# Altium footprint library SG__PCB_Chip.PcbLib: 121 footprints (part 4 of 8)
Each footprint in its own frame and in the unit in brackets; x right, y up, seen from the top. Pads: shape width x height; smd on the part's side, far side on the other; paste and mask are expansions set on the pad; w line width, h text height; cw(c..) or ccw(c..) is an arc to the next point about the centre after c.
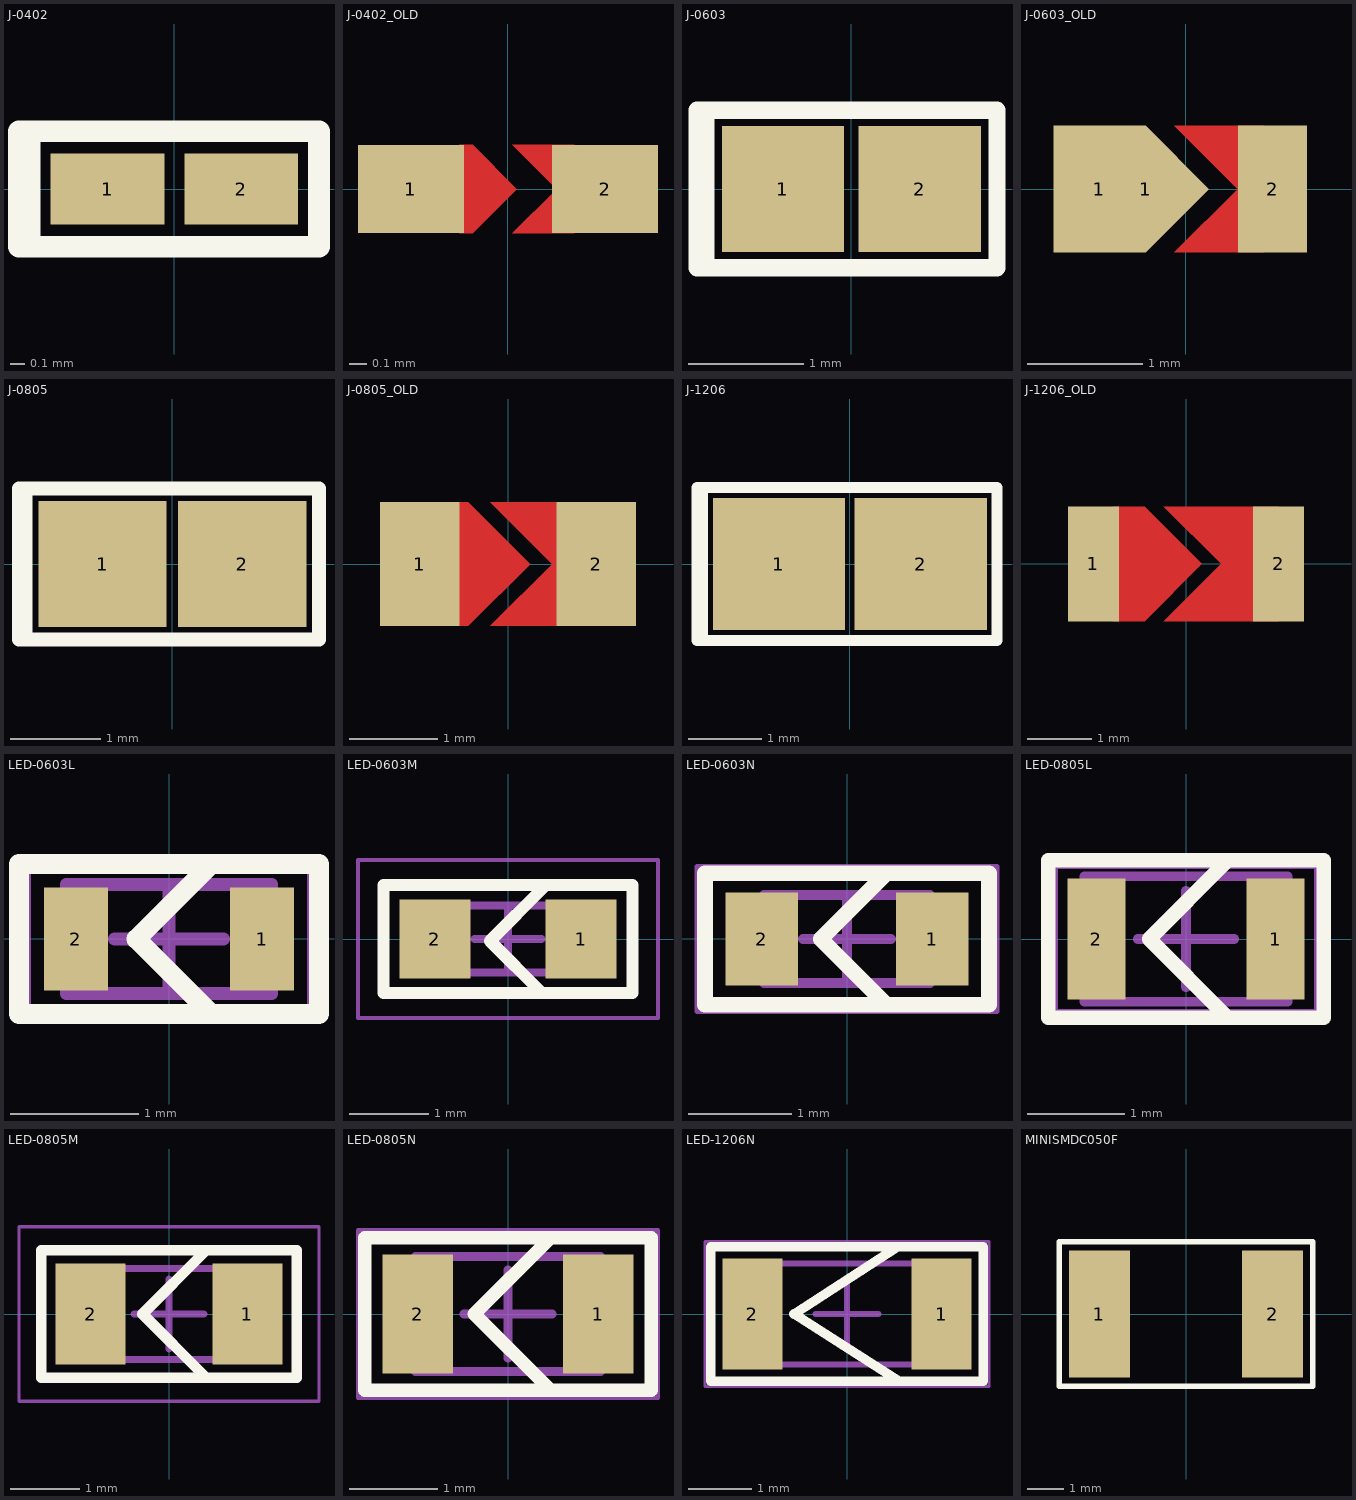
[diagram p3: the footprints below, top view; thin cyan lines are the x and y axes]

## J-0402 [mil]
pads (2):
  rect 31.5x19.68 smd mask+1.97: 1(-18.5,0) 2(18.5,0)
Top Overlay:
  lines w6: -36,-16 -43,-16 -43,13 -43,16 -30,16 ; -8,-16 40,-16 40,-2 40,16 13,16 -40,16 -40,-6 -40,-16 -7,-16
3D body: height 13.78, standoff 0, extent -11.81,-9.84 11.81,9.84
3D body: height 13.78, standoff 0, extent -19.68,-9.84 -11.81,9.84
3D body: height 13.78, standoff 0, extent 11.81,-9.84 19.69,9.84

## J-0402_OLD [mm]
pads (2):
  rect 0.6x0.5 smd mask+0.05: 1(-0.55,0) 2(0.55,0)
Top Layer:
  region: -0.2,-0.25 0.05,0 -0.2,0.25 -0.275,0.25 -0.275,-0.25
  region: 0.375,-0.25 0.025,-0.25 0.275,0 0.025,0.25 0.375,0.25 0.45,0.175 0.45,-0.175

## J-0603 [mil]
pads (2):
  rect 42x43.31 smd mask+1.97: 1(-23.5,0) 2(23.5,0)
Top Overlay:
  lines w6: -47.5,-27 50,-27 50,27 27.5,27 -50,27 -50,-27 -43.5,-27 ; -46,-27 -53,-27 -53,4 -53,27 -44,27
3D body: height 17.72, standoff 0, extent 21.65,-15.75 31.5,15.75
3D body: height 17.72, standoff 0, extent -31.5,-15.75 -21.65,15.75
3D body: height 17.72, standoff 0, extent -21.65,-15.75 21.65,15.75

## J-0603_OLD [mm]
pads (3):
  rect 0.8x1.1 smd mask+0.05: 1(-0.75,0)
  rect 0.778x0.778 smd rot 45 mask+0.05: 1(-0.35,0)
  rect 0.6x1.1 smd mask+0.05: 2(0.75,0)
Top Layer:
  region: -0.1,-0.55 0.45,0 -0.1,0.55 0.675,0.55 0.675,-0.55

## J-0805 [mil]
pads (2):
  rect 56x55.12 smd mask+1.97: 1(-30.5,0) 2(30.5,0)
Top Overlay:
  lines w6: -61,-33 -67,-33 -67,-11 -67,33 -58,33 ; -10.5,-33 64,-33 64,-19.5 64,33 52.5,33 -64,33 -64,-6.5 -64,-33 -8.5,-33
3D body: height 19.68, standoff 0, extent 25.59,-24.61 39.37,24.61
3D body: height 19.68, standoff 0, extent -39.37,-24.61 -25.59,24.61
3D body: height 19.68, standoff 0, extent -25.59,-24.61 25.59,24.61

## J-0805_OLD [mm]
pads (2):
  rect 0.9x1.4 smd mask+0.05: 1(-1,0) 2(1,0)
Top Layer:
  region: -0.2,-0.7 0.5,0 -0.2,0.7 0.65,0.7 0.65,-0.7
  region: -0.625,-0.7 -0.45,-0.7 0.25,0 -0.45,0.7 -0.625,0.7

## J-1206 [mil]
pads (2):
  rect 71x70.87 smd mask+1.97: 1(-38,0) 2(38,0)
Top Overlay:
  lines w6: -76,-41 -82,-41 -82,-10 -82,41 -75,41 ; -20,-41 79,-41 79,-17 79,41 36,41 -79,41 -79,-11 -79,-41 -17,-41
3D body: height 21.65, standoff 0, extent 43.31,-31.5 61.02,31.5
3D body: height 21.65, standoff 0, extent -61.02,-31.5 -43.31,31.5
3D body: height 21.65, standoff 0, extent -43.31,-31.5 43.31,31.5

## J-1206_OLD [mm]
pads (2):
  rect 0.8x1.8 smd mask+0.05: 1(-1.45,0) 2(1.45,0)
Top Layer:
  region: -1.15,-0.9 -0.65,-0.9 0.25,0 -0.65,0.9 -1.15,0.9
  region: -0.35,-0.9 0.55,0 -0.35,0.9 1.45,0.9 1.45,-0.9

## LED-0603L [mm] "Chip Resistor, 2-Leads, Body 1,60x0,85mm, IPC High Density"
height 0.45
pads (2):
  rect 0.5x0.8 smd: 1(0.725,0) 2(-0.725,0)
Top Overlay:
  lines w0.152: 0.33,-0.584 -0.254,0 0.33,0.584 ; 1.143,0.584 -1.169,0.584 -1.169,-0.584 1.168,-0.584 1.168,0.559 1.168,0.584
Assembly Top:
  lines w0.1: -0.8,-0.425 -0.8,0.425 0.8,0.425 0.8,-0.425 -0.8,-0.425
Courtyard Top:
  lines w0.05: -1.1,-0.55 -1.1,0.55 1.1,0.55 1.1,-0.55 -1.1,-0.55
  lines w0.1: -0.425,0 0.425,0 ; 0,-0.425 0,0.425
3D body "LED0603.step": height 0.6, standoff 0, extent -0.81,-0.4 0.81,0.4

## LED-0603M [mm] "Chip Resistor, 2-Leads, Body 1,60x0,85mm, IPC Low Density"
height 0.45
pads (2):
  rect 0.9x1 smd: 1(0.925,0) 2(-0.925,0)
Top Overlay:
  lines w0.152: 0.432,-0.686 -0.229,-0.025 0.457,0.66 ; 1.245,0.686 1.575,0.686 1.575,0.381 ; -1.575,-0.686 -1.575,0.686 1.549,0.686 1.575,0.66 1.575,-0.686 -1.575,-0.686
Assembly Top:
  lines w0.1: -0.8,-0.425 0.8,-0.425 0.8,0.425 -0.8,0.425 -0.8,-0.425
Courtyard Top:
  lines w0.05: -1.9,-1 1.9,-1 1.9,1 -1.9,1 -1.9,-1
  lines w0.1: -0.425,0 0.425,0 ; 0,-0.425 0,0.425
3D body "LED0603.step": height 0.6, standoff 0, extent -0.81,-0.4 0.81,0.4

## LED-0603N [mm] "Chip Resistor, 2-Leads, Body 1,60x0,85mm, IPC Medium Density"
height 0.45
pads (2):
  rect 0.7x0.9 smd: 1(0.825,0) 2(-0.825,0)
Top Overlay:
  lines w0.152: 0.381,-0.635 -0.254,0 0.381,0.635 ; 1.346,0.635 -1.372,0.635 -1.372,-0.635 1.372,-0.635 1.372,0.635
Assembly Top:
  lines w0.1: -0.8,-0.425 0.8,-0.425 0.8,0.425 -0.8,0.425 -0.8,-0.425
Courtyard Top:
  lines w0.05: -1.45,-0.7 1.45,-0.7 1.45,0.7 -1.45,0.7 -1.45,-0.7
  lines w0.1: -0.425,0 0.425,0 ; 0,-0.425 0,0.425
3D body "LED0603.step": height 0.6, standoff 0, extent -0.81,-0.4 0.81,0.4

## LED-0805L [mm] "Chip Resistor, 2-Leads, Body 2,10x1,30mm, IPC High Density"
height 0.5
pads (2):
  rect 0.6x1.25 smd: 1(0.925,0) 2(-0.925,0)
Top Overlay:
  lines w0.152: 0.432,-0.813 -0.381,0 0.432,0.813 ; -1.422,-0.813 1.422,-0.813 1.422,0.813 -1.422,0.813 -1.422,-0.813
Assembly Top:
  lines w0.1: -1.05,-0.65 -1.05,0.65 1.05,0.65 1.05,-0.65 -1.05,-0.65
Courtyard Top:
  lines w0.05: -1.35,-0.75 -1.35,0.75 1.35,0.75 1.35,-0.75 -1.35,-0.75
  lines w0.1: -0.5,0 0.5,0 ; 0,-0.5 0,0.5
3D body "led_0805 GREEN.step": height 1.1, standoff 0, extent -1.01,-0.625 1.01,0.625

## LED-0805M [mm] "Chip Resistor, 2-Leads, Body 2,10x1,30mm, IPC Low Density"
height 0.5
pads (2):
  rect 1x1.45 smd: 1(1.125,0) 2(-1.125,0)
Top Overlay:
  lines w0.152: 0.521,-0.902 -0.381,0 0.521,0.902 ; 1.245,0.914 1.829,0.914 1.829,-0.102 1.829,-0.914 1.803,-0.914 -1.829,-0.914 -1.829,0.914 1.803,0.914
Assembly Top:
  lines w0.1: -1.05,-0.65 1.05,-0.65 1.05,0.65 -1.05,0.65 -1.05,-0.65
Courtyard Top:
  lines w0.05: -2.15,-1.25 2.15,-1.25 2.15,1.25 -2.15,1.25 -2.15,-1.25
  lines w0.1: -0.5,0 0.5,0 ; 0,-0.5 0,0.5
3D body "led_0805 GREEN.step": height 1.1, standoff 0, extent -1.01,-0.625 1.01,0.625

## LED-0805N [mm] "Chip Resistor, 2-Leads, Body 2,10x1,30mm, IPC Medium Density"
height 0.5
pads (2):
  rect 0.8x1.35 smd: 1(1.025,0) 2(-1.025,0)
Top Overlay:
  lines w0.152: 0.483,-0.864 -0.381,0 0.483,0.864 ; 1.549,0.864 1.626,0.864 1.626,-0.864 -1.626,-0.864 -1.626,0.864 1.6,0.864
Assembly Top:
  lines w0.1: -1.05,-0.65 1.05,-0.65 1.05,0.65 -1.05,0.65 -1.05,-0.65
Courtyard Top:
  lines w0.05: -1.7,-0.95 1.7,-0.95 1.7,0.95 -1.7,0.95 -1.7,-0.95
  lines w0.1: -0.5,0 0.5,0 ; 0,-0.5 0,0.5
3D body "led_0805 GREEN.step": height 1.1, standoff 0, extent -1.01,-0.625 1.01,0.625

## LED-1206N [mm]
height 0.55
pads (2):
  rect 0.95x1.75 smd: 1(1.5,0) 2(-1.5,0)
Top Overlay:
  lines w0.152: 0.813,1.067 -0.838,0 0.838,-1.067 ; 0.838,1.067 0.889,1.067 ; 1.88,1.067 2.159,1.067 2.159,-1.067 -1.981,-1.067 -2.159,-1.067 -2.159,1.067 2.007,1.067
Assembly Top:
  lines w0.1: -1.55,-0.8 1.55,-0.8 1.55,0.8 -1.55,0.8 -1.55,-0.8
Courtyard Top:
  lines w0.05: -2.25,-1.15 2.25,-1.15 2.25,1.15 -2.25,1.15 -2.25,-1.15
  lines w0.1: -0.5,0 0.5,0 ; 0,-0.5 0,0.5
3D body: height 0.55, standoff 0, extent -1.55,-0.8 -1.1,0.8
3D body: height 0.55, standoff 0, extent 1.1,-0.8 1.55,0.8
3D body: height 0.55, standoff 0, extent -1.1,-0.8 1.1,0.8

## MINISMDC050F [mm]
pads (2):
  rect 1.68x3.5 smd mask+0.05: 1(-2.39,0) 2(2.39,0)
Top Overlay:
  lines w0.15: -3.5,-2 -3.5,2 3.5,2 3.5,-2 -3.5,-2
3D body "Fuse 1812.STEP": height 1.03, standoff 0, extent -2.38,-1.715 2.355,1.765